# Altium footprint library 61031021821.PcbLib: 1 footprints
Each footprint in its own frame and in the unit in brackets; x right, y up, seen from the top. Pads: shape width x height; smd on the part's side, far side on the other; paste and mask are expansions set on the pad; w line width, h text height; cw(c..) or ccw(c..) is an arc to the next point about the centre after c.
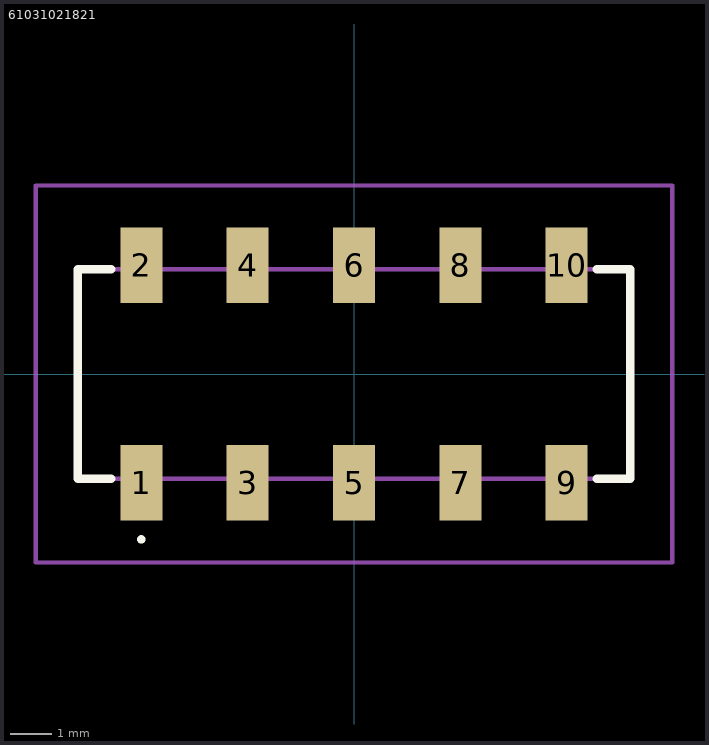
[diagram p0: the footprint, top view; thin cyan lines are the x and y axes]

## 61031021821 [mm]
pads (10):
  rect 1x1.8 smd: 1(-5.08,-2.6) 2(-5.08,2.6) 3(-2.54,-2.6) 4(-2.54,2.6) 5(0,-2.6) 6(0,2.6) 7(2.54,-2.6) 8(2.54,2.6) 9(5.08,-2.6) 10(5.08,2.6)
Top Overlay:
  lines w0.1: -5.08,-4 -5.08,-4 ; -5.08,-4 ccw(c-5.08,-3.95) -5.08,-3.9 ; -5.08,-4 cw(c-5.08,-3.95) -5.08,-3.9 ; -5.08,-3.9 -5.08,-3.9
  lines w0.2: -5.8,-2.5 -6.6,-2.5 -6.6,2.5 -5.8,2.5 ; 5.8,-2.5 6.6,-2.5 6.6,2.5 5.8,2.5
Mechanical 15:
  lines w0.1: -6.6,-2.5 6.6,-2.5 6.6,2.5 -6.6,2.5 -6.6,-2.5
Mechanical 20:
  lines w0.1: -7.6,-4.5 7.6,-4.5 7.6,4.5 -7.6,4.5 -7.6,-4.5